# Altium schematic symbol library V_15.SchLib: 4 symbols
Pins are listed as number, name and electrical type; pins without a type are passive.

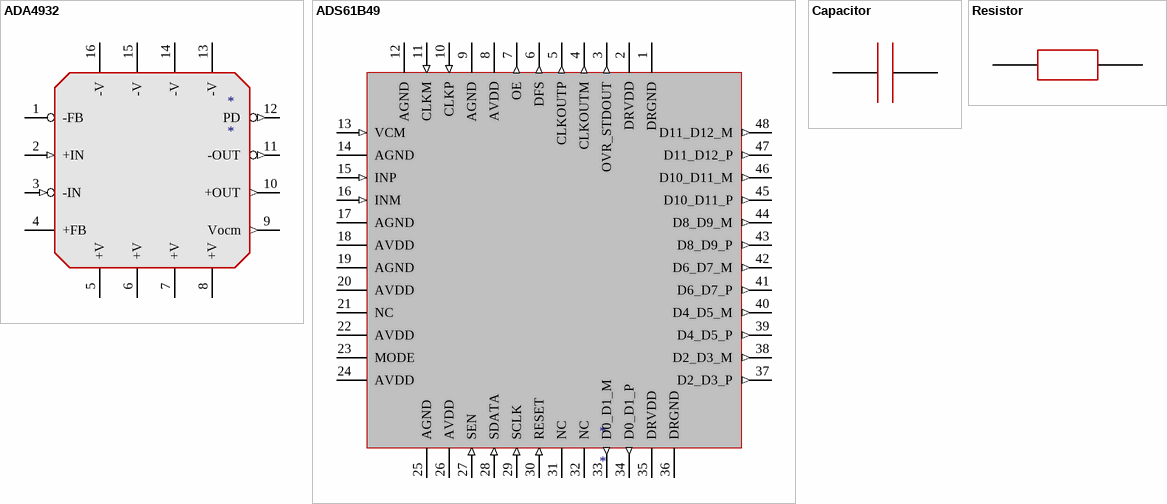
[diagram p0: symbols ADA4932 to Resistor]

## ADA4932
designator *
footprint ADA4932
pins: 1 -FB, 2 +IN (in), 3 -IN (in), 4 +FB, 5 +V, 6 +V, 7 +V, 8 +V, 9 Vocm (out), 10 +OUT (out), 11 -OUT (out), 12 PD (out), 13 -V, 14 -V, 15 -V, 16 -V

## ADS61B49
designator *
footprint ADS61B49 (Footprint not found)
pins: 1 DRGND, 2 DRVDD, 3 OVR_STDOUT (out), 4 CLKOUTM (out), 5 CLKOUTP (out), 6 DFS (out), 7 OE (out), 8 AVDD, 9 AGND, 10 CLKP (in), 11 CLKM (in), 12 AGND, 13 VCM (in), 14 AGND, 15 INP (in), 16 INM (in), 17 AGND, 18 AVDD, 19 AGND, 20 AVDD, 21 NC, 22 AVDD, 23 MODE, 24 AVDD, 25 AGND, 26 AVDD, 27 SEN (in), 28 SDATA (in), 29 SCLK (in), 30 RESET (in), 31 NC, 32 NC, 33 D0_D1_M (out), 34 D0_D1_P (out), 35 DRVDD, 36 DRGND, 37 D2_D3_P (out), 38 D2_D3_M (out), 39 D4_D5_P (out), 40 D4_D5_M (out), 41 D6_D7_P (out), 42 D6_D7_M (out), 43 D8_D9_P (out), 44 D8_D9_M (out), 45 D10_D11_P (out), 46 D10_D11_M (out), 47 D11_D12_P (out), 48 D11_D12_M (out)

## Capacitor
designator *  (value not drawn)
footprint C
pins: 2, 3

## Resistor
designator ?
footprint R
pins: 0, 1